# EAGLE library part IDC_10PIN-G821EU210AAL10Y (library dpx-con-CUSTOM)
Connector Wire to Board Header 10 Position Solder Straight Through Hole - Trays Source: Datasheet <http://www.amphenol-icc.com/media/wysiwyg/files/drawing/g821eu210xxl10y.pdf>
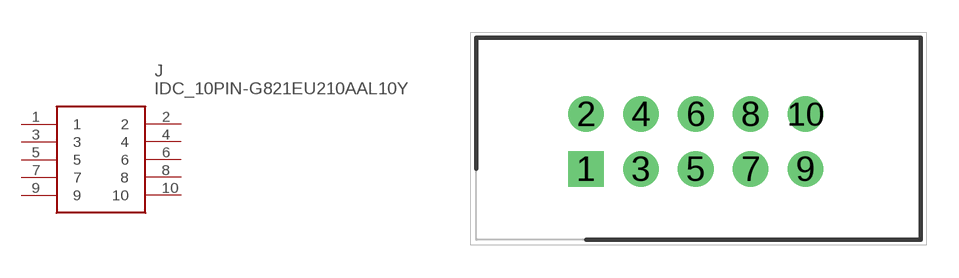
[diagram p8: symbol with the pads of SHDR10W64P254_2X5_2032X910X935; footprint SHDR10W64P254_2X5_2032X910X935]

Designator prefix J

## IDC_10PIN-G821EU210AAL10Y (DESCRIPTION: Connector Wire to Board Header 10 Position Solder Straight Through Hole - Trays; HEIGHT: 9.35mm; MANUFACTURER_NAME: Amphenol; MANUFACTURER_PART_NUMBER: G821EU210AAL10Y; MOUSER_PART_NUMBER: 523-G821EU210AAL10Y; MOUSER_PRICE-STOCK: https://www.mouser.co.uk/ProductDetail/Amphenol-Commercial-Products/G821EU210AAL10Y?qs=f9yNj16SXrKgfgt6Mg6Piw%3D%3D)  [SHDR10W64P254_2X5_2032X910X935]
1  1
2  2
3  3
4  4
5  5
6  6
7  7
8  8
9  9
10  10

## Footprint SHDR10W64P254_2X5_2032X910X935 (pad centres in mm)
G821EU210AAL10Y
drill 1.1 pad 1.65 square: 1 0,0
drill 1.1 pad 1.65: 2 0,2.54; 3 2.54,0; 4 2.54,2.54; 5 5.08,0; 6 5.08,2.54; 7 7.62,0; 8 7.62,2.54; 9 10.16,0; 10 10.16,2.54